# EAGLE library part TSM1052 (library Battery Chargers)
Charger IC SOT-23-6 Manufacturer's datasheet <https://www.st.com/content/ccc/resource/technical/document/datasheet/a6/0f/5c/80/87/ac/4b/ec/CD00152575.pdf/files/CD00152575.pdf/jcr:content/translations/en.CD00152575.pdf>
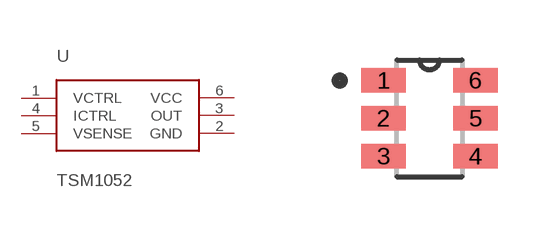
[diagram p10: symbol with the pads of TSM1052; footprint TSM1052]

Designator prefix U

## TSM1052 (CREATED_BY: PCBLayout.com; DIGIKEY_PART_NUMBER: 497-6034-1-ND; MANUFACTURER: STMicroelectronics; MPN: TSM1052; PACKAGE: SOT-23-6)  [TSM1052]
1  VCTRL  in
2  GND  pwr
3  OUT  out
4  ICTRL  in
5  VSENSE  in
6  VCC  pwr

## Footprint TSM1052 (pad centres in mm)
smd 1.11 x 0.62: 1 -1.15,0.95; 2 -1.15,0; 3 -1.15,-0.95; 4 1.15,-0.95; 5 1.15,0; 6 1.15,0.95